# Altium schematic symbol library SCH - MCU - STM32 - ST MICROELECTRONICS STM32L412TBYX WLCSP36.SchLib: 1 symbol
Pins are listed as number, name and electrical type; pins without a type are passive.

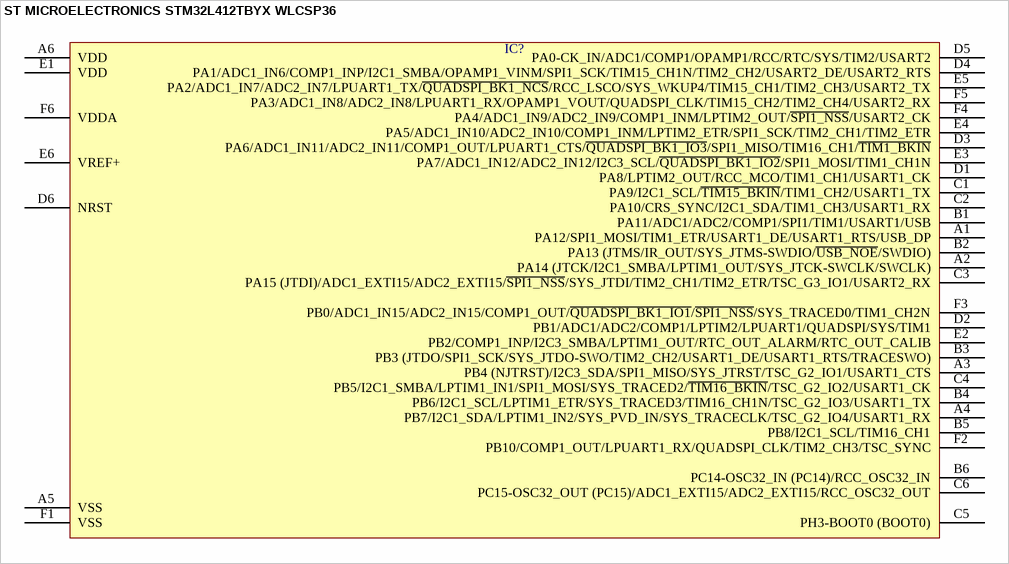
[diagram p0: symbol ST MICROELECTRONICS STM32L412TBYX WLCSP36]

## ST MICROELECTRONICS STM32L412TBYX WLCSP36
designator IC?  (value not drawn)
pins: A1 PA12/SPI1_MOSI/TIM1_ETR/USART1_DE/USART1_RTS/USB_DP, A2 PA14 (JTCK/I2C1_SMBA/LPTIM1_OUT/SYS_JTCK-SWCLK/SWCLK), A3 PB4 (NJTRST)/I2C3_SDA/SPI1_MISO/SYS_JTRST/TSC_G2_IO1/USART1_CTS, A4 PB7/I2C1_SDA/LPTIM1_IN2/SYS_PVD_IN/SYS_TRACECLK/TSC_G2_IO4/USART1_RX, A5 VSS, A6 VDD, B1 PA11/ADC1/ADC2/COMP1/SPI1/TIM1/USART1/USB, B2 PA13 (JTMS/IR_OUT/SYS_JTMS-SWDIO/~{USB_NOE}/SWDIO), B3 PB3 (JTDO/SPI1_SCK/SYS_JTDO-SWO/TIM2_CH2/USART1_DE/USART1_RTS/TRACESWO), B4 PB6/I2C1_SCL/LPTIM1_ETR/SYS_TRACED3/TIM16_CH1N/TSC_G2_IO3/USART1_TX, B5 PB8/I2C1_SCL/TIM16_CH1, B6 PC14-OSC32_IN (PC14)/RCC_OSC32_IN, C1 PA9/I2C1_SCL/~{TIM15_BKIN}/TIM1_CH2/USART1_TX, C2 PA10/CRS_SYNC/I2C1_SDA/TIM1_CH3/USART1_RX, C3 PA15 (JTDI)/ADC1_EXTI15/ADC2_EXTI15/~{SPI1_NSS}/SYS_JTDI/TIM2_CH1/TIM2_ETR/TSC_G3_IO1/USART2_RX, C4 PB5/I2C1_SMBA/LPTIM1_IN1/SPI1_MOSI/SYS_TRACED2/~{TIM16_BKIN}/TSC_G2_IO2/USART1_CK, C5 PH3-BOOT0 (BOOT0), C6 PC15-OSC32_OUT (PC15)/ADC1_EXTI15/ADC2_EXTI15/RCC_OSC32_OUT, D1 PA8/LPTIM2_OUT/RCC_MCO/TIM1_CH1/USART1_CK, D2 PB1/ADC1/ADC2/COMP1/LPTIM2/LPUART1/QUADSPI/SYS/TIM1, D3 PA6/ADC1_IN11/ADC2_IN11/COMP1_OUT/LPUART1_CTS/~{QUADSPI_BK1_IO3}/SPI1_MISO/TIM16_CH1/~{TIM1_BKIN}, D4 PA1/ADC1_IN6/COMP1_INP/I2C1_SMBA/OPAMP1_VINM/SPI1_SCK/TIM15_CH1N/TIM2_CH2/USART2_DE/USART2_RTS, D5 PA0-CK_IN/ADC1/COMP1/OPAMP1/RCC/RTC/SYS/TIM2/USART2, D6 NRST, E1 VDD, E2 PB2/COMP1_INP/I2C3_SMBA/LPTIM1_OUT/RTC_OUT_ALARM/RTC_OUT_CALIB, E3 PA7/ADC1_IN12/ADC2_IN12/I2C3_SCL/~{QUADSPI_BK1_IO2}/SPI1_MOSI/TIM1_CH1N, E4 PA5/ADC1_IN10/ADC2_IN10/COMP1_INM/LPTIM2_ETR/SPI1_SCK/TIM2_CH1/TIM2_ETR, E5 PA2/ADC1_IN7/ADC2_IN7/LPUART1_TX/~{QUADSPI_BK1_NCS}/RCC_LSCO/SYS_WKUP4/TIM15_CH1/TIM2_CH3/USART2_TX, E6 VREF+, F1 VSS, F2 PB10/COMP1_OUT/LPUART1_RX/QUADSPI_CLK/TIM2_CH3/TSC_SYNC, F3 PB0/ADC1_IN15/ADC2_IN15/COMP1_OUT/~{QUADSPI_BK1_IO1}/~{SPI1_NSS}/SYS_TRACED0/TIM1_CH2N, F4 PA4/ADC1_IN9/ADC2_IN9/COMP1_INM/LPTIM2_OUT/~{SPI1_NSS}/USART2_CK, F5 PA3/ADC1_IN8/ADC2_IN8/LPUART1_RX/OPAMP1_VOUT/QUADSPI_CLK/TIM15_CH2/TIM2_CH4/USART2_RX, F6 VDDA